# EAGLE library part 687120144921 (library Wuerth_Elektronik_eiCan_03_ZIF_Connectors_Flat_Flexible_Cable)
WR-FPC 0.5mm SMT ZIF Horizontal Top Contact Low Profile 1.2mm Height, 20 Pins
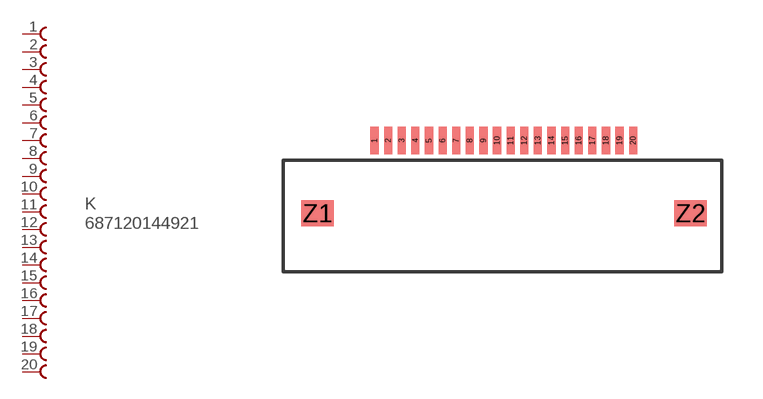
[diagram p97: symbol with the pads of 687120144921; footprint 687120144921]

Designator prefix K

## 687120144921  [687120144921]
1  1  pas
2  2  pas
3  3  pas
4  4  pas
5  5  pas
6  6  pas
7  7  pas
8  8  pas
9  9  pas
10  10  pas
11  11  pas
12  12  pas
13  13  pas
14  14  pas
15  15  pas
16  16  pas
17  17  pas
18  18  pas
19  19  pas
20  20  pas

## Footprint 687120144921 (pad centres in mm)
WR-FPC 0.5mm SMT ZIF Horizontal Top Contact Low Profile 1.2mm Height, 20 Pins
smd 0.3 x 1: 1 -4.75,4.825; 2 -4.25,4.825; 3 -3.75,4.825; 4 -3.25,4.825; 5 -2.75,4.825; 6 -2.25,4.825; 7 -1.75,4.825; 8 -1.25,4.825; 9 -0.75,4.825; 10 -0.25,4.825; 11 0.25,4.825; 12 0.75,4.825; 13 1.25,4.825; 14 1.75,4.825; 15 2.25,4.825; 16 2.75,4.825; 17 3.25,4.825; 18 3.75,4.825; 19 4.25,4.825; 20 4.75,4.825
smd 1.2 x 0.95: Z1 -6.85,2.15; Z2 6.85,2.15